# EAGLE library part TE_AMP_1-1534229-1 (library Souers)
Used with bosch radar. Pairs with1-967658-1.
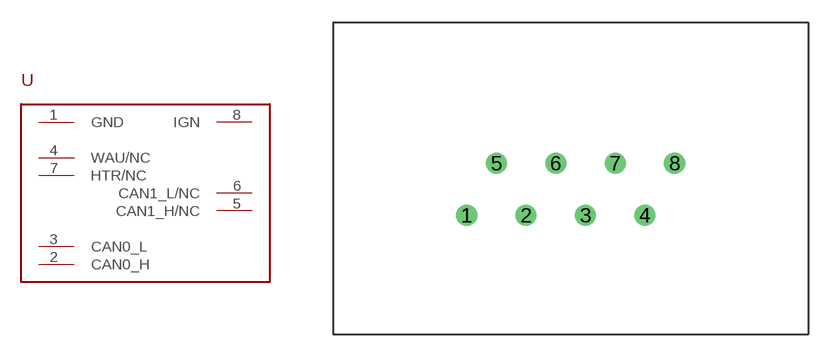
[diagram p5: symbol with the pads of TE_AMP_1-1534229-1; footprint TE_AMP_1-1534229-1]

Designator prefix -

## TE_AMP_1-1534229-1TESLARADAR  [TE_AMP_1-1534229-1]
1  GND  pwr
2  CAN0_H
3  CAN0_L
4  WAU/NC
5  CAN1_H/NC
6  CAN1_L/NC
7  HTR/NC
8  IGN  pwr

## Footprint TE_AMP_1-1534229-1 (pad centres in mm)
drill 0.8 pad 1.422: 1 -8,0; 2 -4,0; 3 0,0; 4 4,0; 5 -6,3.5; 6 -2,3.5; 7 2,3.5; 8 6,3.5